# EAGLE library part ATLSCI_COND (library cond)
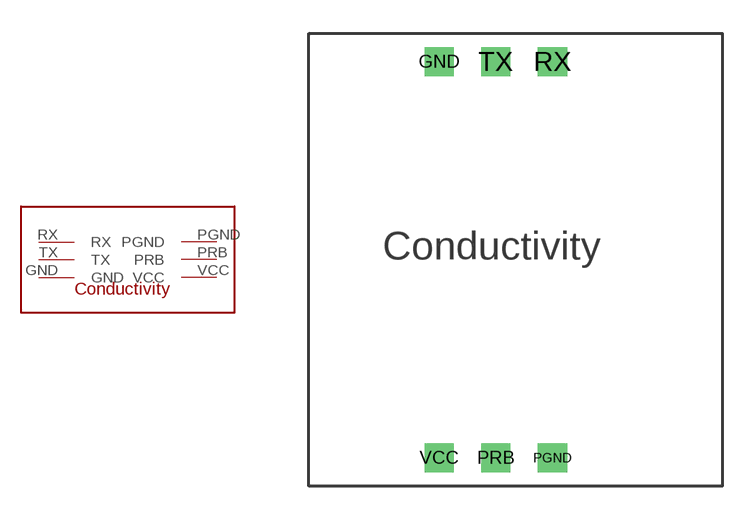
[diagram p1: symbol with the pads of ATLAS_SCI_COND; footprint ATLAS_SCI_COND]

Designator prefix -

## ATLSCI_COND  [ATLAS_SCI_COND]
GND  GND
PGND  PGND
PRB  PRB
RX  RX
TX  TX
VCC  VCC

## Footprint ATLAS_SCI_COND (pad centres in mm)
drill 0.8 square: GND -2.54,8.89; PGND 2.54,-8.89; PRB 0,-8.89; RX 2.54,8.89; TX 0,8.89; VCC -2.54,-8.89